# EAGLE library part 74*590A (library 74ttl-din)
8-bit BINARY COUNTER with output register
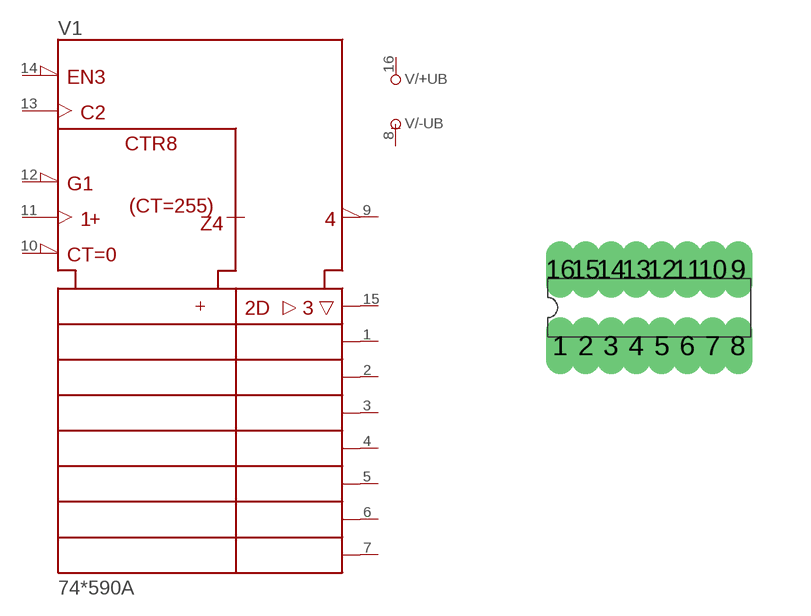
[diagram p111: symbol with the pads of DIL16; footprint DIL16]

Designator prefix V; gates /+UB=+UB /-UB=-UB 1=590A

## 74590AN  [DIL16]
1  1:QB  hiz
2  1:QC  hiz
3  1:QD  hiz
4  1:QE  hiz
5  1:QF  hiz
6  1:QG  hiz
7  1:QH  hiz
8  /-UB:-UB  pwr
9  1:!RCO  out
10  1:!CCLR  in
11  1:CCK  in
12  1:!CCKEN  in
13  1:RCK  in
14  1:!G  in
15  1:QA  hiz
16  /+UB:+UB  pwr

## Footprint DIL16 (pad centres in mm)
Dual In Line Package
drill 0.203 long: 1 -2.223,-0.953; 2 -1.587,-0.953; 3 -0.953,-0.953; 4 -0.318,-0.953; 5 0.318,-0.953; 6 0.953,-0.953; 7 1.587,-0.953; 8 2.223,-0.953; 9 2.223,0.953; 10 1.587,0.953; 11 0.953,0.953; 12 0.318,0.953; 13 -0.318,0.953; 14 -0.953,0.953; 15 -1.587,0.953; 16 -2.223,0.953